# EAGLE library part ES_2144_V1 (library Electrosmith_Boards)
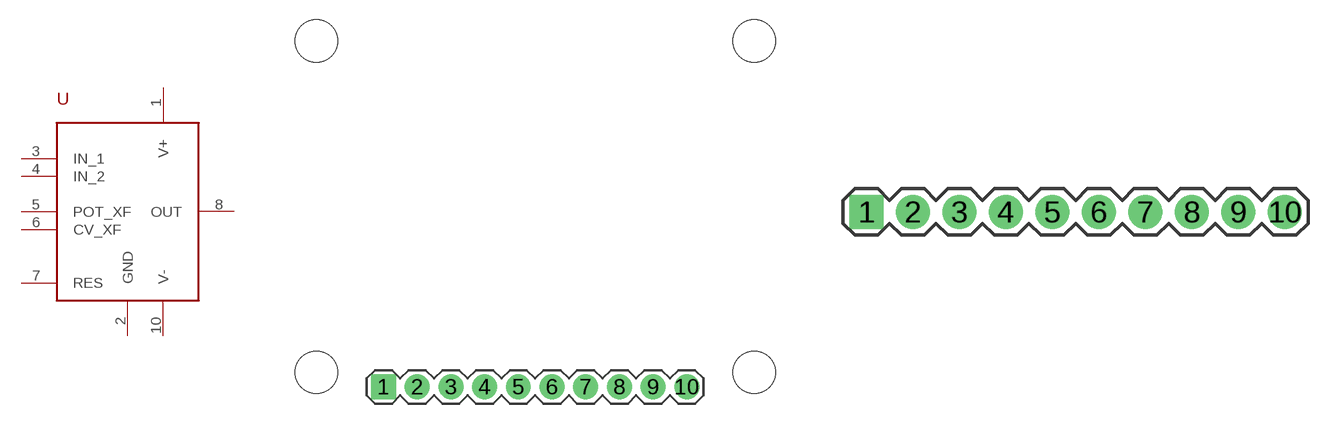
[diagram p7: symbol with the pads of ES_2144_4_HOLES; footprints ES_2144_4_HOLES, ES_2144_NO_HOLES]

Designator prefix -

## ES_2144_V1  [ES_2144_4_HOLES]
1  V+
2  GND
3  IN_1
4  IN_2
5  POT_XF
6  CV_XF
7  RES
8  OUT
10  V-

## ES_2144_V1_NO_HOLES  [ES_2144_NO_HOLES]
Pads as for ES_2144_4_HOLES

## ES_2144_V1_VERT  [ES_2144_VERT]
Pads as for ES_2144_4_HOLES

## Footprint ES_2144_4_HOLES (pad centres in mm)
drill 1.016 pad 1.88 square: 1 8.058,1.905
drill 1.016 pad 1.88: 2 10.598,1.905; 3 13.138,1.905; 4 15.678,1.905; 5 18.218,1.905; 6 20.758,1.905; 7 23.298,1.905; 8 25.838,1.905; 9 28.378,1.905; 10 30.918,1.905
hole 3.175 at 36,28
hole 3.175 at 36,3
hole 3.175 at 3,3
hole 3.175 at 3,28

## Footprint ES_2144_NO_HOLES (pad centres in mm)
drill 1.016 pad 1.88 square: 1 8.058,1.905
drill 1.016 pad 1.88: 2 10.598,1.905; 3 13.138,1.905; 4 15.678,1.905; 5 18.218,1.905; 6 20.758,1.905; 7 23.298,1.905; 8 25.838,1.905; 9 28.378,1.905; 10 30.918,1.905

## Footprint ES_2144_VERT (pad centres in mm)
drill 1.016 pad 1.88 square: 1 0,0
drill 1.016 pad 1.88: 2 2.54,0; 3 5.08,0; 4 7.62,0; 5 10.16,0; 6 12.7,0; 7 15.24,0; 8 17.78,0; 9 20.32,0; 10 22.86,0